# EAGLE library part SW-DIP-4 (library Others)
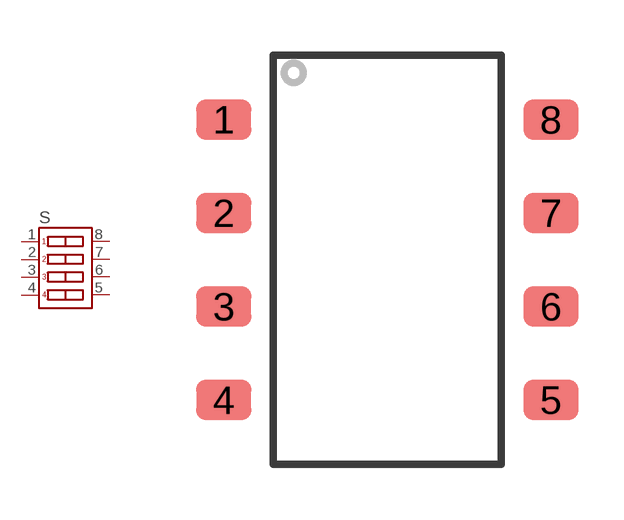
[diagram p3: symbol with the pads of SW-DIP-4-SMD; footprint SW-DIP-4-SMD]

Designator prefix S

## SW-DIP-4_(SW-DIP-4-SMD) (CYTRON-PC: S-SS-DIP-4; DESC: SMD DIP Swiitch; VALUE: 4 WAYS)  [SW-DIP-4-SMD]
1  P$1
2  P$2
3  P$3
4  P$4
5  P$5
6  P$6
7  P$7
8  P$8

## Footprint SW-DIP-4-SMD (pad centres in mm)
smd 1.499 x 1.092: 1 -4.445,3.81; 2 -4.445,1.27; 3 -4.445,-1.27; 4 -4.445,-3.81; 5 4.445,-3.81; 6 4.445,-1.27; 7 4.445,1.27; 8 4.445,3.81